# EAGLE library part DT15-4P (library DT15-4P)
Deutsch DT15 Series, 4.44mm Pitch 4 Way 2 Row Straight PCB Header, Solder Termination Source: Datasheet <http://uk.rs-online.com/web/p/products/7242532>
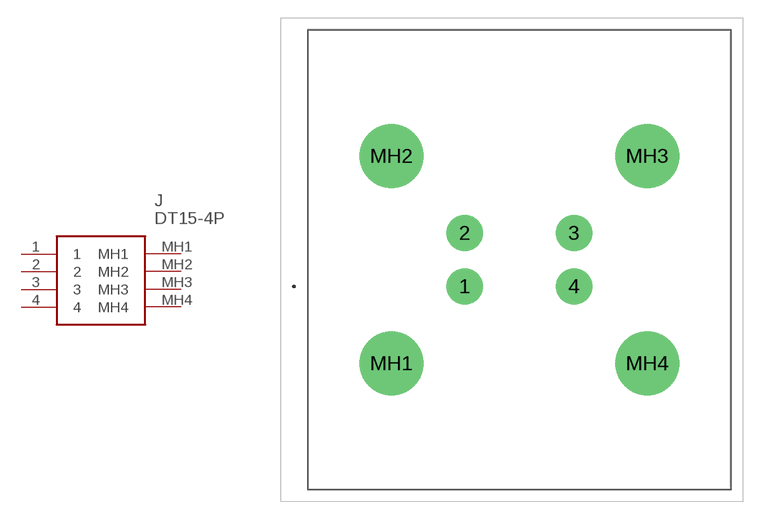
[diagram p0: symbol with the pads of DT154P; footprint DT154P]

Designator prefix J

## DT15-4P (Allied_Number: 70696154; Description: Deutsch DT15 Series, 4.44mm Pitch 4 Way 2 Row Straight PCB Header, Solder Termination; Height: 30.35mm; Manufacturer_Name: TE Connectivity; Manufacturer_Part_Number: DT15-4P; RS_Part_Number: 7242532; RS_Price-Stock: http://uk.rs-online.com/web/p/products/7242532)  [DT154P]
1  1
2  2
3  3
4  4
MH1  MH1
MH2  MH2
MH3  MH3
MH4  MH4

## Footprint DT154P (pad centres in mm)
DT15-4P-1
drill 2.01 pad 3.015: 1 0,0; 2 0,4.45; 3 9.12,4.45; 4 9.12,0
drill 3.56 pad 5.34: MH1 -6.11,-6.425; MH2 -6.11,10.875; MH3 15.23,10.875; MH4 15.23,-6.425